# Altium footprint library HEXCAL_PCB_LIB.PcbLib: 209 footprints (part 4 of 14)
Each footprint in its own frame and in the unit in brackets; x right, y up, seen from the top. Pads: shape width x height; smd on the part's side, far side on the other; paste and mask are expansions set on the pad; w line width, h text height; cw(c..) or ccw(c..) is an arc to the next point about the centre after c.
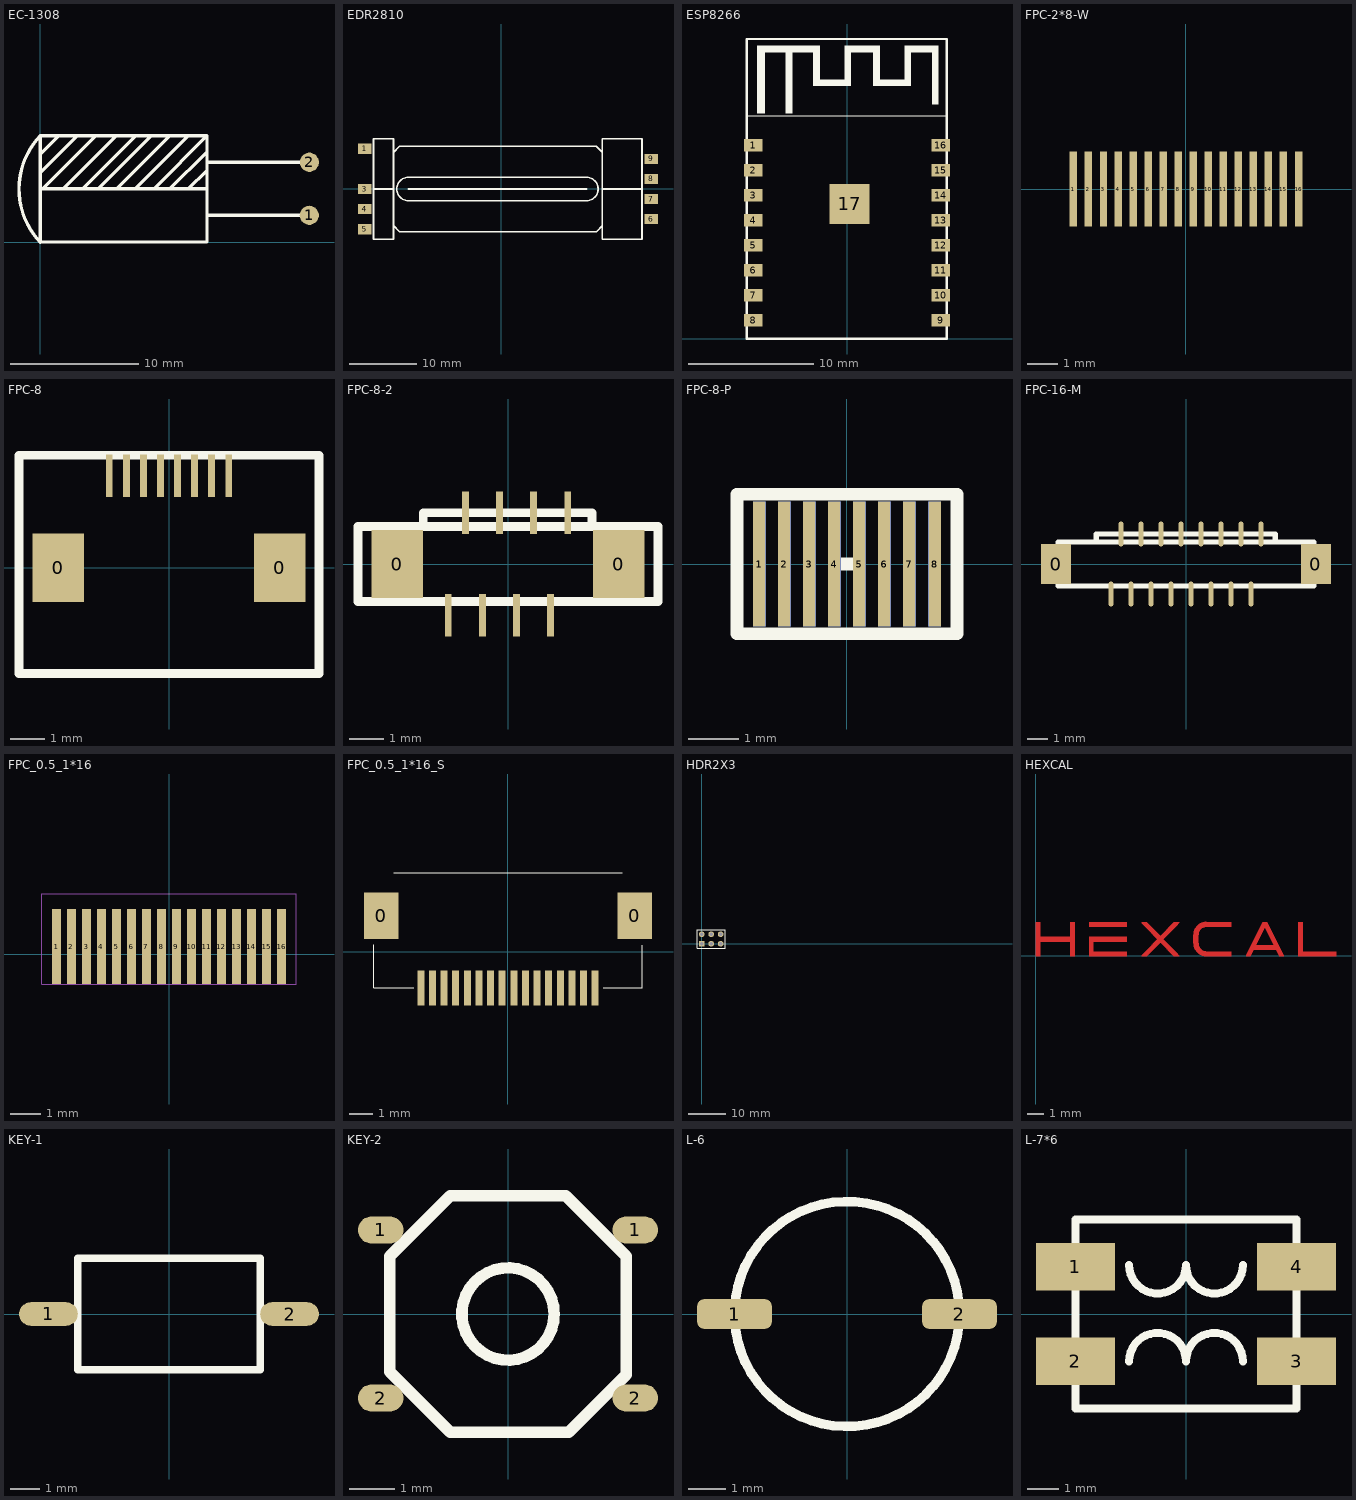
[diagram p3: the footprints below, top view; thin cyan lines are the x and y axes]

## EC-1308 [mm]
pads (2):
  round 1.5 smd: 1(20.986,2.085) 2(20.993,6.225)
Top Overlay:
  lines w0.254: -0.01,-0.009 cw(c4.369,4.14) 0,8.3 ; 0.002,6.858 1.444,8.3 ; 0.024,5.436 2.889,8.3 ; 0.183,4.15 4.333,8.3 ; 1.788,4.15 5.938,8.3 6.5,8.3 ; 3.312,4.15 7.462,8.3 7.747,8.3 ; 4.572,4.205 8.667,8.3 ; 5.961,4.15 10.111,8.3 ; 7.406,4.15 11.556,8.3 ; 8.915,4.215 13,8.3 ; 10.111,4.15 12.946,6.985 ; 11.556,4.15 12.968,5.563 ; 12.996,2.085 20.986,2.085 ; 13,4.15 0,4.15 ; 13,6.223 13.002,6.225 20.993,6.225 ; 0,4.15 0,0 13,0 13,8.3 ; 0,4.15 0,8.3 ; 0,8.3 13,8.3

## EDR2810 [mm]
pads (8):
  rect 2x1.5 smd: 1(-20.358,5.955) 3(-20.358,-0.045) 4(-20.358,-3.045) 5(-20.358,-6.045) 6(22.328,-4.545) 7(22.328,-1.545) 8(22.328,1.455) 9(22.328,4.455)
Top Overlay:
  lines w0.254: -13.832,-0.045 12.668,-0.045 ; 20.839,-0.045 15.039,-0.045 ; 20.921,7.434 15.039,7.434 15.039,-7.545 20.942,-7.545 20.942,7.455 ; -19.058,-0.045 -19.058,7.455 -16.058,7.455 -16.058,5.441 -16.058,-7.545 -19.058,-7.545 -19.058,-0.045 ; -19.058,-0.045 -16.058,-0.045 ; -16.058,-0.045 -16.058,5.434 -15.187,6.305 14.15,6.305 15.039,5.416 15.039,-0.045 ; -16.058,-0.045 -16.058,-5.506 -15.169,-6.395 14.168,-6.395 15.039,-5.524 15.039,-0.045 ; -13.832,-1.795 cw(c-13.832,-0.045) -13.832,1.705 12.668,1.705 cw(c12.668,-0.045) 12.668,-1.795 -13.832,-1.795

## ESP8266 [mm]
pads (17):
  rect 1.5x1 smd: 1(-7.5,15.496) 2(-7.5,13.496) 3(-7.5,11.496) 4(-7.5,9.496) 5(-7.5,7.496) 6(-7.5,5.496) 7(-7.5,3.496) 8(-7.5,1.496) 9(7.5,1.496) 10(7.5,3.496) 11(7.5,5.496) 12(7.5,7.496) 13(7.5,9.496) 14(7.5,11.496) 15(7.5,13.496) 16(7.5,15.496)
  rect 3.2x3.2 smd: 17(0.22,10.817)
Top Overlay:
  region: -7.196,22.959 -7.196,23.459 -2.196,23.459 -2.196,20.759 -0.196,20.759 -0.196,23.459 2.604,23.459 2.604,20.759 4.604,20.759 4.604,23.459 7.304,23.459 7.304,18.786 6.804,18.786 6.804,22.959 5.104,22.959 5.104,20.259 2.104,20.259 2.104,22.959 0.304,22.959 0.304,20.259 -2.696,20.259 -2.696,22.959 -4.396,22.959 -4.396,18.059 -4.896,18.059 -4.896,22.959
  region: -7.196,23.212 -7.196,18.059 -6.569,18.059 -6.569,23.212
  lines w0.1: -8,17.849 8,17.849
  lines w0.2: -8,0 8,0 8,24 -8,24 -8,0

## FPC-2*8-W [mm]
pads (16):
  rect 0.25x2.5 smd: 1(-3.75,0) 2(-3.25,0) 3(-2.75,0) 4(-2.25,0) 5(-1.75,0) 6(-1.25,0) 7(-0.75,0) 8(-0.25,0) 9(0.25,0) 10(0.75,0) 11(1.25,0) 12(1.75,0) 13(2.25,0) 14(2.75,0) 15(3.25,0) 16(3.75,0)

## FPC-8 [mm]
pads (10):
  rect 1.5x2 smd: 0(-3.25,0) 0(3.25,0)
  rect 0.2x1.25 smd: 1(-1.75,2.699) 2(-1.25,2.699) 3(-0.75,2.699) 4(-0.25,2.699) 5(0.25,2.699) 6(0.75,2.699) 7(1.25,2.699) 8(1.75,2.699)
Top Overlay:
  lines w0.254: -4.4,-3.1 4.4,-3.1 4.4,0 4.4,3.3 3.25,3.3 -3.25,3.3 -4.4,3.3 -4.4,0 -4.4,-3.1

## FPC-8-2 [mm]
pads (10):
  rect 1.5x2 smd: 0(-3.25,0) 0(3.25,0)
  rect 0.2x1.25 smd: 1(-1.75,-1.5) 2(-1.25,1.5) 3(-0.75,-1.5) 4(-0.25,1.5) 5(0.25,-1.5) 6(0.75,1.5) 7(1.25,-1.5) 8(1.75,1.5)
Top Overlay:
  lines w0.254: -2.489,1.1 -2.489,1.499 2.464,1.499 2.464,1.1 ; -4.4,-1.1 -4.4,0 -4.4,1.1 4.4,1.1 4.4,0 4.4,-1.1 -4.4,-1.1

## FPC-8-P [mm]
pads (16):
  rect 0.25x2.5 smd: 1(-1.75,0) 2(-1.25,0) 3(-0.75,0) 4(-0.25,0) 5(0.25,0) 6(0.75,0) 7(1.25,0) 8(1.75,0)
  rect 0.25x2.5 smd far side: 1(-1.75,0) 2(-1.25,0) 3(-0.75,0) 4(-0.25,0) 5(0.25,0) 6(0.75,0) 7(1.25,0) 8(1.75,0)
Top Overlay:
  lines w0.254: -0.25,0 0.25,0 ; -2.2,-1.397 -2.2,1.397 2.2,1.397 2.2,-1.397 -2.2,-1.397

## FPC-16-M [mm]
pads (18):
  rect 1.5x2 smd: 0(-6.5,0) 0(6.5,0)
  oval 0.254x1.25 smd: 1(-3.75,-1.5) 2(-3.25,1.5) 3(-2.75,-1.5) 4(-2.25,1.5) 5(-1.75,-1.5) 6(-1.25,1.5) 7(-0.75,-1.5) 8(-0.25,1.5) 9(0.25,-1.5) 10(0.75,1.5) 11(1.25,-1.5) 12(1.75,1.5) 13(2.25,-1.5) 14(2.75,1.5) 15(3.25,-1.5) 16(3.75,1.5)
Top Overlay:
  lines w0.254: -4.489,1.1 -4.489,1.499 3.464,1.499 4.464,1.499 4.464,1.1 ; -6.4,-1.1 -3.4,-1.1 5.4,-1.1 6.4,-1.1 6.4,0 6.4,1.1 5.4,1.1 -3.4,1.1 -6.4,1.1 -6.4,0 -6.4,-1.1

## FPC_0.5_1*16 [mm]
pads (16):
  rect 0.3x2.5 smd paste-100: 1(-3.75,0.25) 2(-3.25,0.25) 3(-2.75,0.25) 4(-2.25,0.25) 5(-1.75,0.25) 6(-1.25,0.25) 7(-0.75,0.25) 8(-0.25,0.25) 9(0.25,0.25) 10(0.75,0.25) 11(1.25,0.25) 12(1.75,0.25) 13(2.25,0.25) 14(2.75,0.25) 15(3.25,0.25) 16(3.75,0.25)
Mechanical 1:
  lines w0.02: -4.25,-1 -4.25,2 4.25,2 4.25,-1 -4.25,-1

## FPC_0.5_1*16_S [mm]
pads (18):
  rect 1.5x2 smd: 0(-5.45,1.55) 0(5.45,1.55)
  rect 0.3x1.5 smd: 1(-3.75,-1.55) 2(-3.25,-1.55) 3(-2.75,-1.55) 4(-2.25,-1.55) 5(-1.75,-1.55) 6(-1.25,-1.55) 7(-0.75,-1.55) 8(-0.25,-1.55) 9(0.25,-1.55) 10(0.75,-1.55) 11(1.25,-1.55) 12(1.75,-1.55) 13(2.25,-1.55) 14(2.75,-1.55) 15(3.25,-1.55) 16(3.75,-1.55)
Top Overlay:
  lines w0.013: -5.77,0.305 -5.77,-1.55 -4.051,-1.55 ; -4.915,3.404 4.915,3.404 ; 4.089,-1.55 5.77,-1.55 5.77,0.279

## HDR2X3 [mm]
height 10.16
pads (6):
  rect 1.5x1.5 hole 0.9: 1(0,0)
  round 1.5 hole 0.9: 2(0,2.54) 3(2.54,0) 4(2.54,2.54) 5(5.08,0) 6(5.08,2.54)
Top Overlay:
  lines w0.2: -1.27,-1.27 6.35,-1.27 6.35,3.81 -1.27,3.81 -1.27,-1.27

## HEXCAL [mm]
Top Layer:
  drawing of 11502 lines, arcs and shapes, not listed

## KEY-1 [mm]
pads (2):
  oval 2x0.8 smd: 1(-4.1,0) 2(4.1,0)
Top Overlay:
  lines w0.254: -3.1,-1.9 -3.1,1.9 3.1,1.9 3.1,-1.9 -3.1,-1.9

## KEY-2 [mm]
pads (4):
  oval 1x0.6 smd: 1(-2.802,1.85) 1(2.802,1.85) 2(-2.802,-1.85) 2(2.802,-1.85)
Top Overlay:
  circle w0.254: c0,0 r1.016
  lines w0.254: -2.6,-1.27 -2.6,1.27 -1.27,2.6 1.27,2.6 2.6,1.27 2.6,-1.337 1.337,-2.6 -1.27,-2.6 -2.6,-1.27

## L-6 [mm]
pads (2):
  rrect50% 2x0.8 smd: 1(-3,0) 2(3,0)
Top Overlay:
  circle w0.254: c0,0 r3

## L-7*6 [mm]
pads (4):
  rect 2.5x1.5 smd: 1(-3.5,1.5) 2(-3.5,-1.5) 3(3.5,-1.5) 4(3.5,1.5)
Top Overlay:
  lines w0.254: -1.8,-1.499 cw(c-0.9,-1.499) 0,-1.499 cw(c0.9,-1.499) 1.8,-1.499 ; -1.8,1.549 ccw(c-0.9,1.549) 0,1.549 ccw(c0.9,1.549) 1.8,1.549 ; -3.5,-3 3.5,-3 3.5,3 -3.5,3 -3.5,-3